# Altium integrated library main.IntLib: 4 symbols
Pins are listed as number, name and electrical type; pins without a type are passive.

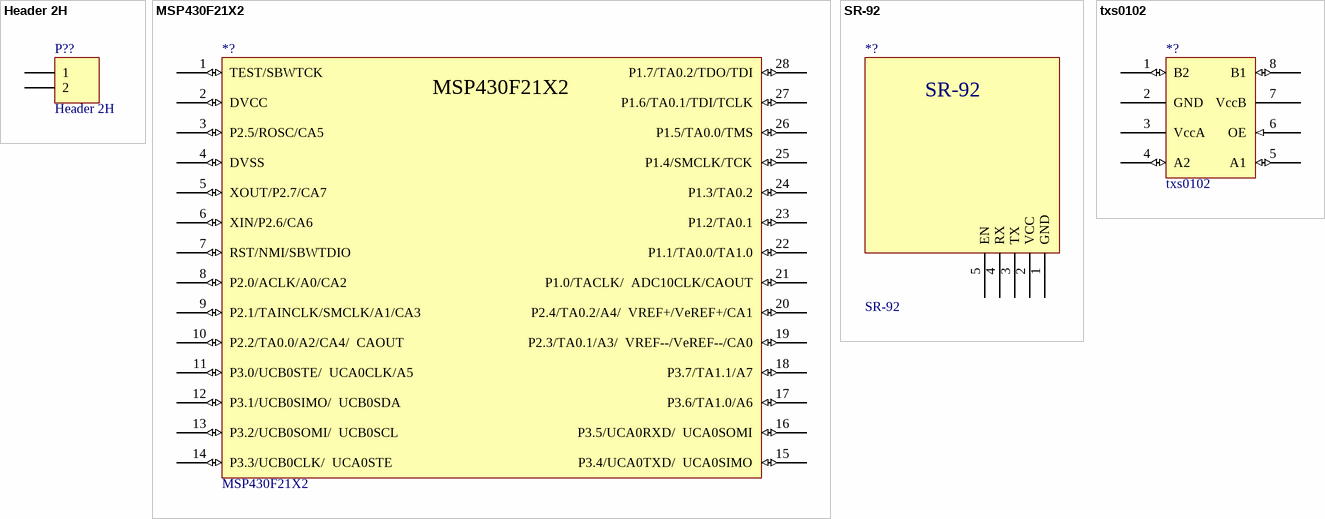
[diagram p0: symbols Header 2H to txs0102]

## Header 2H
designator P??
Header, 2-Pin, Right Angle; LatestRevisionDate: 17-Jul-2002; LatestRevisionNote: Re-released for DXP Platform.; Publisher: Altium Limited
footprint HDR1X2H (Connector; Header; 2 Position; Right Angle)
signal-integrity model Connector
pins: 1, 2

## MSP430F21X2
designator *?
footprint PW028 (Shrink Small Outline; 28 Leads; Body Width 4.4 mm; Pitch 0.65 mm)
pins: 1 TEST/SBWTCK (io), 2 DVCC (io), 3 P2.5/ROSC/CA5 (io), 4 DVSS (io), 5 XOUT/P2.7/CA7 (io), 6 XIN/P2.6/CA6 (io), 7 RST/NMI/SBWTDIO (io), 8 P2.0/ACLK/A0/CA2 (io), 9 P2.1/TAINCLK/SMCLK/A1/CA3 (io), 10 P2.2/TA0.0/A2/CA4/  CAOUT (io), 11 P3.0/UCB0STE/  UCA0CLK/A5 (io), 12 P3.1/UCB0SIMO/  UCB0SDA (io), 13 P3.2/UCB0SOMI/  UCB0SCL (io), 14 P3.3/UCB0CLK/  UCA0STE (io), 15 P3.4/UCA0TXD/  UCA0SIMO (io), 16 P3.5/UCA0RXD/  UCA0SOMI (io), 17 P3.6/TA1.0/A6 (io), 18 P3.7/TA1.1/A7 (io), 19 P2.3/TA0.1/A3/  VREF--/VeREF--/CA0 (io), 20 P2.4/TA0.2/A4/  VREF+/VeREF+/CA1 (io), 21 P1.0/TACLK/  ADC10CLK/CAOUT (io), 22 P1.1/TA0.0/TA1.0 (io), 23 P1.2/TA0.1 (io), 24 P1.3/TA0.2 (io), 25 P1.4/SMCLK/TCK (io), 26 P1.5/TA0.0/TMS (io), 27 P1.6/TA0.1/TDI/TCLK (io), 28 P1.7/TA0.2/TDO/TDI (io)

## SR-92
designator *?
pins: 1 GND, 2 VCC, 3 TX, 4 RX, 5 EN

## txs0102
designator *?
footprint D008_L (8-Pin Small Outline Integrated Circuit 1.27 mm Pitch, IPC High Density)
pins: 1 B2 (io), 2 GND (power), 3 VccA (power), 4 A2 (io), 5 A1 (io), 6 OE (in), 7 VccB (power), 8 B1 (io)